# Altium schematic symbol library RES25PWR.Schlib: 1 symbol
Pins are listed as number, name and electrical type; pins without a type are passive.

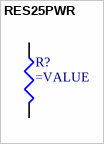
[diagram p0: symbol RES25PWR]

## RES25PWR
designator R?
Resistor
pins: 1, 2
2 alternate drawings of the same symbol